# EAGLE library part ISL78206AVEZ-T7A (library SOP65P640X110-21N)
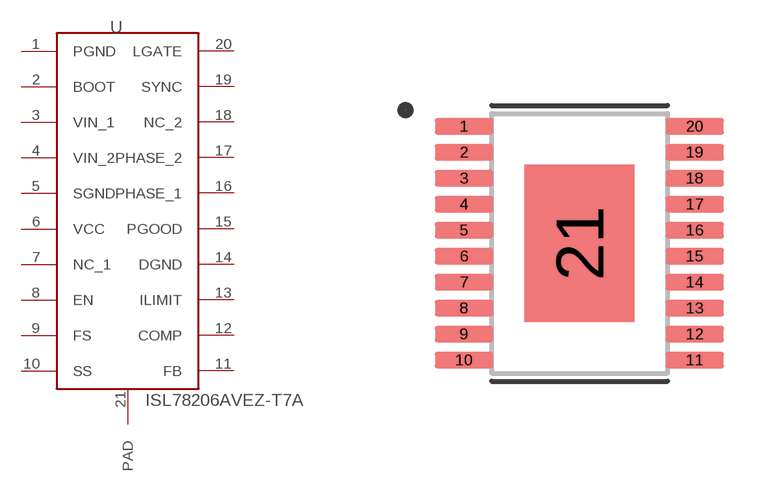
[diagram p0: symbol with the pads of SOP65P640X110-21N; footprint SOP65P640X110-21N]

Designator prefix -

## ISL78206AVEZ-T7A  [SOP65P640X110-21N]
1  PGND
2  BOOT
3  VIN_1
4  VIN_2
5  SGND
6  VCC
7  NC_1
8  EN
9  FS
10  SS
11  FB
12  COMP
13  ILIMIT
14  DGND
15  PGOOD
16  PHASE_1
17  PHASE_2
18  NC_2
19  SYNC
20  LGATE
21  PAD

## Footprint SOP65P640X110-21N (pad centres in mm)
smd 1.46 x 0.41: 1 -2.885,2.925; 2 -2.885,2.275; 3 -2.885,1.625; 4 -2.885,0.975; 5 -2.885,0.325; 6 -2.885,-0.325; 7 -2.885,-0.975; 8 -2.885,-1.625; 9 -2.885,-2.275; 10 -2.885,-2.925; 11 2.885,-2.925; 12 2.885,-2.275; 13 2.885,-1.625; 14 2.885,-0.975; 15 2.885,-0.325; 16 2.885,0.325; 17 2.885,0.975; 18 2.885,1.625; 19 2.885,2.275; 20 2.885,2.925
smd 2.743 x 3.937: 21 0,0